# Altium footprint library SolderBridge.PcbLib: 3 footprints
Each footprint in its own frame and in the unit in brackets; x right, y up, seen from the top. Pads: shape width x height; smd on the part's side, far side on the other; paste and mask are expansions set on the pad; w line width, h text height; cw(c..) or ccw(c..) is an arc to the next point about the centre after c.
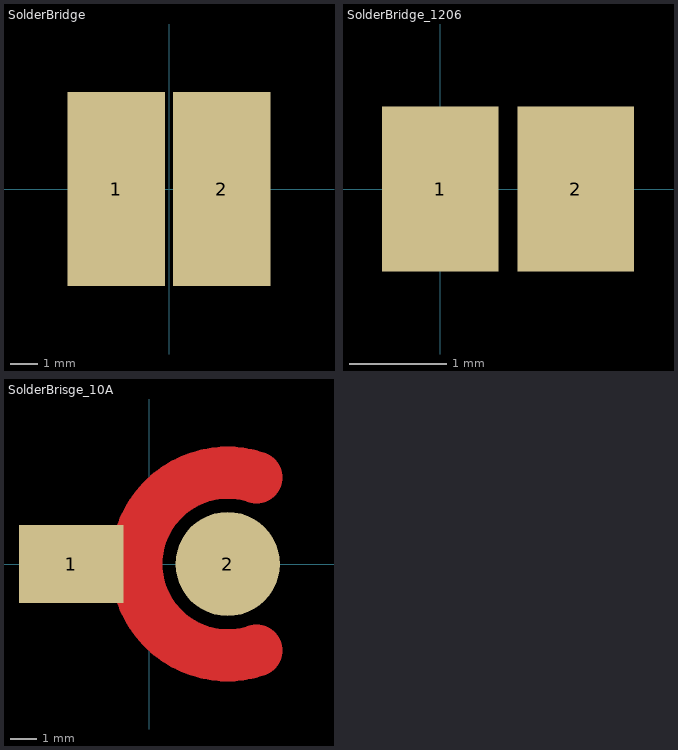
[diagram p0: the footprints below, top view; thin cyan lines are the x and y axes]

## SolderBridge [mm]
pads (2):
  rect 3.5x7 smd paste-2: 1(-1.9,0)
  rect 3.5x7 smd paste-3: 2(1.9,0)
Top Solder:
  circle w6.8: c0,0 r0.1

## SolderBridge_1206 [mm]
pads (2):
  rect 1.2x1.7 smd: 1(0,0) 2(1.4,0)

## SolderBrisge_10A [mm]
pads (2):
  rect 4x3 smd paste-4: 1(-3,0)
  round 4 smd: 2(3,0)
Top Layer:
  lines w2: 4.107,-3.32 cw(c3,0) 4.107,3.32